# EAGLE library part 7490240141 (library WE-LAN)
WE-LAN LAN Transformer Characteristics Suitable for industrial temperatures from –40 °C up to +125 °C Different version available from 1.5 kV isolation to 6 kV. HPLE version Additional CMC for higher attenuation Non PoE, PoE and PoE++ up to 2 A PoE up to 150 W and speeds up to 1 Gbit/s Available in SMT Compliant with standards: IEEE 802.3u, IEEE 802.3ab, IEEE 802.3af, IEEE 802.3at and IEEE 802.3bt UL Recognized Applications Compatible to Industrial Ethernet systems like EtherCAT or Profinet Compliant with most IC’s for Ethernet applications such as Microchip, Texas Instruments, Broadcom, Linear Technology Router, switches, sensors, robotics, automation, IP cameras, IoT applications Details see: www.we-online.com/en/components/products/WE-LAN Created by Ella Wu, 2020-07-08 2020 (C) Würth Elektronik
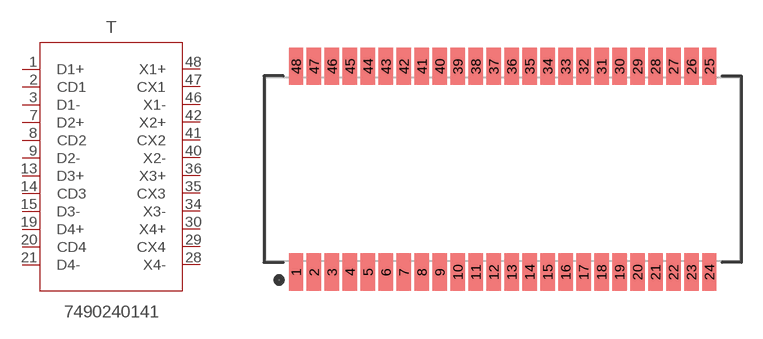
[diagram p30: symbol with the pads of 7490240141; footprint 7490240141]

Designator prefix T

## 7490240141 (DATA-RATE: 1000 Base-T; DATASHEET: https://www.we-online.com/redexpert/spec/7490240141?ae; HPLE: No; IMPROVED-CMRR: No; L: 350 uH; MOUNT: SMT; OPERATING-TEMPERATURE: -40 °C up to +85 °C; PART-NUMBER: 7490240141; POE: 4PPoE (up to 350 mA); PORTS: 1; VALUE: 7490240141; VT: 4000 V (RMS))  [7490240141]
1  D1+  pas
2  CD1  pas
3  D1-  pas
7  D2+  pas
8  CD2  pas
9  D2-  pas
13  D3+  pas
14  CD3  pas
15  D3-  pas
19  D4+  pas
20  CD4  pas
21  D4-  pas
28  X4-  pas
29  CX4  pas
30  X4+  pas
34  X3-  pas
35  CX3  pas
36  X3+  pas
40  X2-  pas
41  CX2  pas
42  X2+  pas
46  X1-  pas
47  CX1  pas
48  X1+  pas

## Footprint 7490240141 (pad centres in mm)
WE-LAN LAN Transformer 1000 Base-T, 1Port, SMT
smd 1.02 x 2.62: 1 -14.605,-7.265; 2 -13.335,-7.265; 3 -12.065,-7.265; 4 -10.795,-7.265; 5 -9.525,-7.265; 6 -8.255,-7.265; 7 -6.985,-7.265; 8 -5.715,-7.265; 9 -4.445,-7.265; 10 -3.175,-7.265; 11 -1.905,-7.265; 12 -0.635,-7.265; 13 0.635,-7.265; 14 1.905,-7.265; 15 3.175,-7.265; 16 4.445,-7.265; 17 5.715,-7.265; 18 6.985,-7.265; 19 8.255,-7.265; 20 9.525,-7.265; 21 10.795,-7.265; 22 12.065,-7.265; 23 13.335,-7.265; 24 14.605,-7.265; 25 14.605,7.265; 26 13.335,7.265; 27 12.065,7.265; 28 10.795,7.265; 29 9.525,7.265; 30 8.255,7.265; 31 6.985,7.265; 32 5.715,7.265; 33 4.445,7.265; 34 3.175,7.265; 35 1.905,7.265; 36 0.635,7.265; 37 -0.635,7.265; 38 -1.905,7.265; 39 -3.175,7.265; 40 -4.445,7.265; 41 -5.715,7.265; 42 -6.985,7.265; 43 -8.255,7.265; 44 -9.525,7.265; 45 -10.795,7.265; 46 -12.065,7.265; 47 -13.335,7.265; 48 -14.605,7.265